# EAGLE library part ATMEGA3250 (library parts)
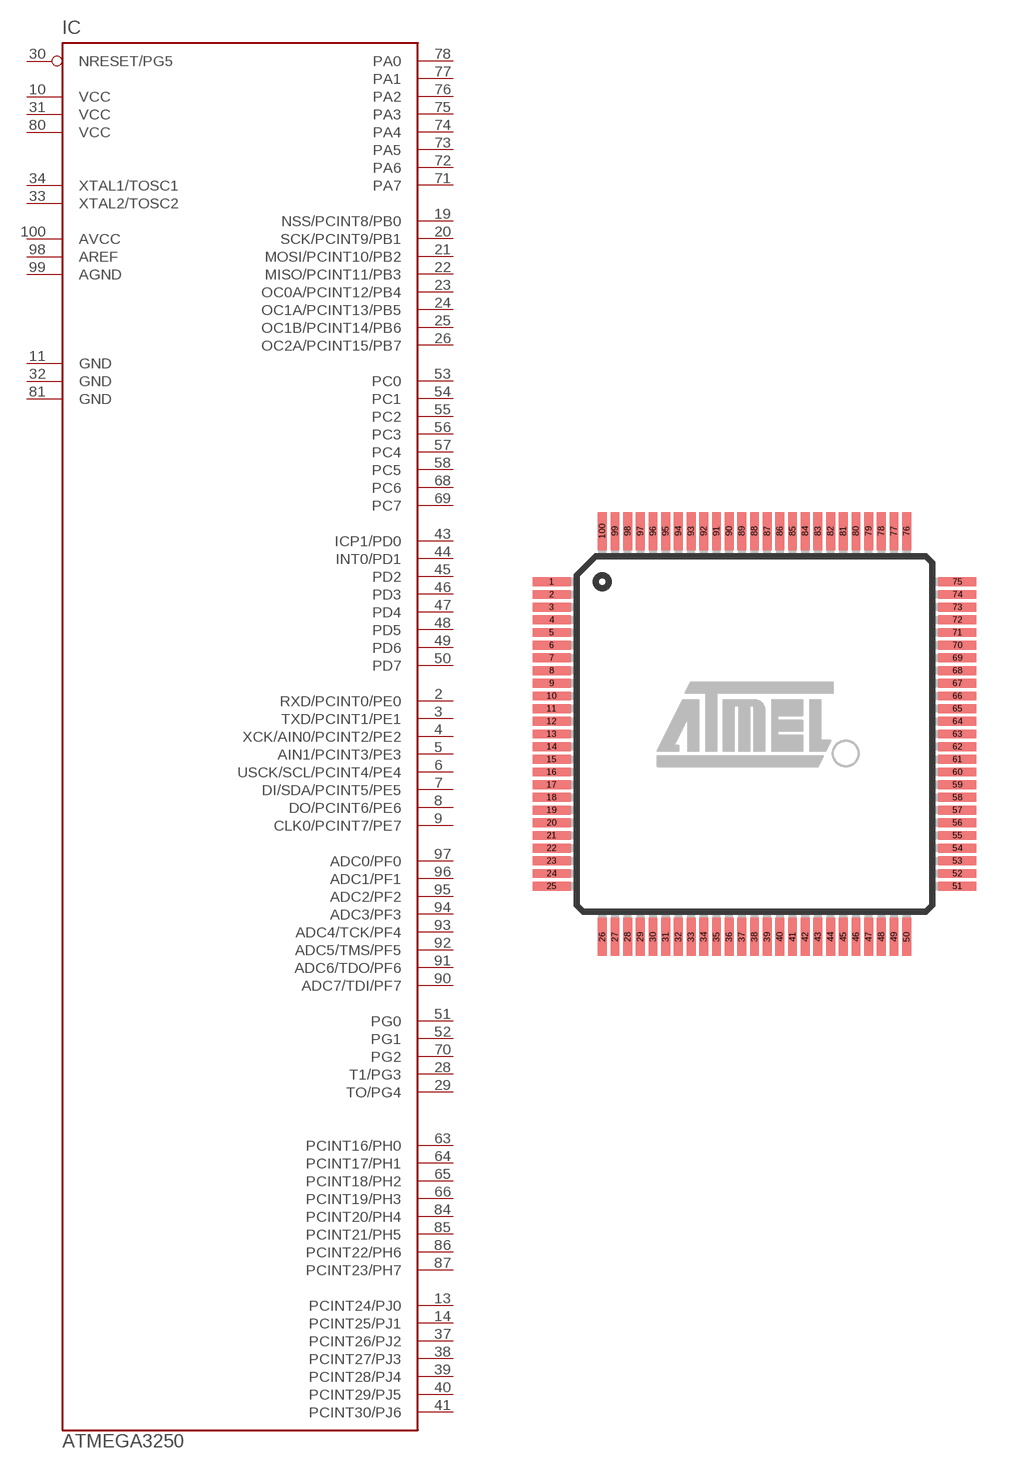
[diagram p1: symbol with the pads of TQFP100; footprint TQFP100]

Designator prefix IC

## ATMEGA3250  [TQFP100]
2  RXD/PCINT0/PE0
3  TXD/PCINT1/PE1
4  XCK/AIN0/PCINT2/PE2
5  AIN1/PCINT3/PE3
6  USCK/SCL/PCINT4/PE4
7  DI/SDA/PCINT5/PE5
8  DO/PCINT6/PE6
9  CLK0/PCINT7/PE7
10  VCC  pwr
11  GND
13  PCINT24/PJ0
14  PCINT25/PJ1
19  NSS/PCINT8/PB0
20  SCK/PCINT9/PB1
21  MOSI/PCINT10/PB2
22  MISO/PCINT11/PB3
23  OC0A/PCINT12/PB4
24  OC1A/PCINT13/PB5
25  OC1B/PCINT14/PB6
26  OC2A/PCINT15/PB7
28  T1/PG3
29  TO/PG4
30  NRESET/PG5  in
31  VCC  pwr
32  GND
33  XTAL2/TOSC2
34  XTAL1/TOSC1
37  PCINT26/PJ2
38  PCINT27/PJ3
39  PCINT28/PJ4
40  PCINT29/PJ5
41  PCINT30/PJ6
43  ICP1/PD0
44  INT0/PD1
45  PD2
46  PD3
47  PD4
48  PD5
49  PD6
50  PD7
51  PG0
52  PG1
53  PC0
54  PC1
55  PC2
56  PC3
57  PC4
58  PC5
63  PCINT16/PH0
64  PCINT17/PH1
65  PCINT18/PH2
66  PCINT19/PH3
68  PC6
69  PC7
70  PG2
71  PA7
72  PA6
73  PA5
74  PA4
75  PA3
76  PA2
77  PA1
78  PA0
80  VCC  pwr
81  GND
84  PCINT20/PH4
85  PCINT21/PH5
86  PCINT22/PH6
87  PCINT23/PH7
90  ADC7/TDI/PF7
91  ADC6/TDO/PF6
92  ADC5/TMS/PF5
93  ADC4/TCK/PF4
94  ADC3/PF3
95  ADC2/PF2
96  ADC1/PF1
97  ADC0/PF0
98  AREF
99  AGND
100  AVCC

## Footprint TQFP100 (pad centres in mm)
100-lead Thin Quad Flat Pack Package
smd 1.5 x 0.35: 1 -8,6; 2 -8,5.5; 3 -8,5; 4 -8,4.5; 5 -8,4; 6 -8,3.5; 7 -8,3; 8 -8,2.5; 9 -8,2; 10 -8,1.5; 11 -8,1; 12 -8,0.5; 13 -8,0; 14 -8,-0.5; 15 -8,-1; 16 -8,-1.5; 17 -8,-2; 18 -8,-2.5; 19 -8,-3; 20 -8,-3.5; 21 -8,-4; 22 -8,-4.5; 23 -8,-5; 24 -8,-5.5; 25 -8,-6; 51 8,-6; 52 8,-5.5; 53 8,-5; 54 8,-4.5; 55 8,-4; 56 8,-3.5; 57 8,-3; 58 8,-2.5; 59 8,-2; 60 8,-1.5; 61 8,-1; 62 8,-0.5; 63 8,0; 64 8,0.5; 65 8,1; 66 8,1.5; 67 8,2; 68 8,2.5; 69 8,3; 70 8,3.5; 71 8,4; 72 8,4.5; 73 8,5; 74 8,5.5; 75 8,6
smd 0.35 x 1.5: 26 -6,-8; 27 -5.5,-8; 28 -5,-8; 29 -4.5,-8; 30 -4,-8; 31 -3.5,-8; 32 -3,-8; 33 -2.5,-8; 34 -2,-8; 35 -1.5,-8; 36 -1,-8; 37 -0.5,-8; 38 0,-8; 39 0.5,-8; 40 1,-8; 41 1.5,-8; 42 2,-8; 43 2.5,-8; 44 3,-8; 45 3.5,-8; 46 4,-8; 47 4.5,-8; 48 5,-8; 49 5.5,-8; 50 6,-8; 76 6,8; 77 5.5,8; 78 5,8; 79 4.5,8; 80 4,8; 81 3.5,8; 82 3,8; 83 2.5,8; 84 2,8; 85 1.5,8; 86 1,8; 87 0.5,8; 88 0,8; 89 -0.5,8; 90 -1,8; 91 -1.5,8; 92 -2,8; 93 -2.5,8; 94 -3,8; 95 -3.5,8; 96 -4,8; 97 -4.5,8; 98 -5,8; 99 -5.5,8; 100 -6,8